# Altium footprint library STM32.PcbLib: 3 footprints
Each footprint in its own frame and in the unit in brackets; x right, y up, seen from the top. Pads: shape width x height; smd on the part's side, far side on the other; paste and mask are expansions set on the pad; w line width, h text height; cw(c..) or ccw(c..) is an arc to the next point about the centre after c.
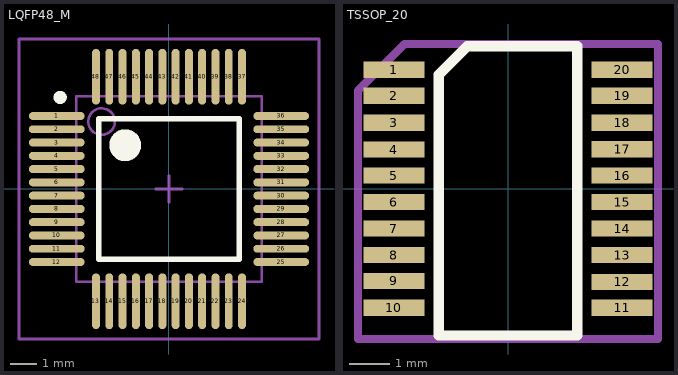
[diagram p0: the footprints below, top view; thin cyan lines are the x and y axes]

## LQFP48_M [mm] "Thin QFP, 48-Leads, Body 7x7mm, Pitch 0.5mm, IPC Low Density"
height 1.6
pads (48):
  oval 2.1x0.3 smd: 1(-4.227,2.75) 2(-4.227,2.25) 3(-4.227,1.75) 4(-4.227,1.25) 5(-4.227,0.75) 6(-4.227,0.25) 7(-4.227,-0.25) 8(-4.227,-0.75) 9(-4.227,-1.25) 10(-4.227,-1.75) 11(-4.227,-2.25) 12(-4.227,-2.75) 25(4.227,-2.75) 26(4.227,-2.25) 27(4.227,-1.75) 28(4.227,-1.25) 29(4.227,-0.75) 30(4.227,-0.25) 31(4.227,0.25) 32(4.227,0.75) 33(4.227,1.25) 34(4.227,1.75) 35(4.227,2.25) 36(4.227,2.75)
  oval 0.3x2.1 smd: 13(-2.75,-4.227) 14(-2.25,-4.227) 15(-1.75,-4.227) 16(-1.25,-4.227) 17(-0.75,-4.227) 18(-0.25,-4.227) 19(0.25,-4.227) 20(0.75,-4.227) 21(1.25,-4.227) 22(1.75,-4.227) 23(2.25,-4.227) 24(2.75,-4.227) 37(2.75,4.227) 38(2.25,4.227) 39(1.75,4.227) 40(1.25,4.227) 41(0.75,4.227) 42(0.25,4.227) 43(-0.25,4.227) 44(-0.75,4.227) 45(-1.25,4.227) 46(-1.75,4.227) 47(-2.25,4.227) 48(-2.75,4.227)
Top Overlay:
  circle w0.25: c-4.1,3.45 r0.125
  circle w0.6: c-1.65,1.65 r0.3
  lines w0.2: -2.65,-2.65 -2.65,2.65 2.65,2.65 2.65,-2.65 -2.65,-2.65
Mechanical 13:
  circle w0.1: c-2.54,2.54 r0.5
  lines w0.1: -3.5,-3.5 -3.5,3.5 3.5,3.5 3.5,-3.5 -3.5,-3.5
Mechanical 15:
  lines w0.1: -0.5,0 0.5,0 ; 0,-0.5 0,0.5 ; -5.65,-5.65 -5.65,5.65 5.65,5.65 5.65,-5.65 -5.65,-5.65
3D body "LQFP48_Grid_0_5.STEP": height 1.6, standoff 0, extent -4.5,-4.5 4.5,4.5

## PCBComponent_1 [mm]

## TSSOP_20 [mm]
pads (20):
  rect 1.5x0.4 smd: 1(-2.8,2.925) 2(-2.8,2.286) 3(-2.8,1.626) 4(-2.8,0.965) 5(-2.8,0.325) 6(-2.8,-0.325) 7(-2.8,-0.975) 8(-2.8,-1.626) 9(-2.8,-2.261) 10(-2.8,-2.921) 11(2.8,-2.921) 12(2.8,-2.286) 13(2.8,-1.626) 14(2.8,-0.975) 15(2.8,-0.325) 16(2.8,0.325) 17(2.8,0.975) 18(2.8,1.626) 19(2.8,2.286) 20(2.8,2.925)
Top Overlay:
  lines w0.254: -1.7,-3.6 -1.7,2.8 -1,3.5 1.7,3.5 1.7,-3.6 -1.7,-3.6
Mechanical 7:
  lines w0.2: -3.683,-3.683 3.683,-3.683 3.683,3.556 -2.54,3.556 -3.683,2.413 -3.683,-3.683
  text ".Designator" at -3.302,-0.254 h1.52
3D body "TSSOP_20.step": height 1.2, standoff 0, extent -3.3,-3.3 3.3,3.3